# Altium footprint library SGK_DVR_01.PcbLib: 37 footprints (part 2 of 3)
Each footprint in its own frame and in the unit in brackets; x right, y up, seen from the top. Pads: shape width x height; smd on the part's side, far side on the other; paste and mask are expansions set on the pad; w line width, h text height; cw(c..) or ccw(c..) is an arc to the next point about the centre after c.
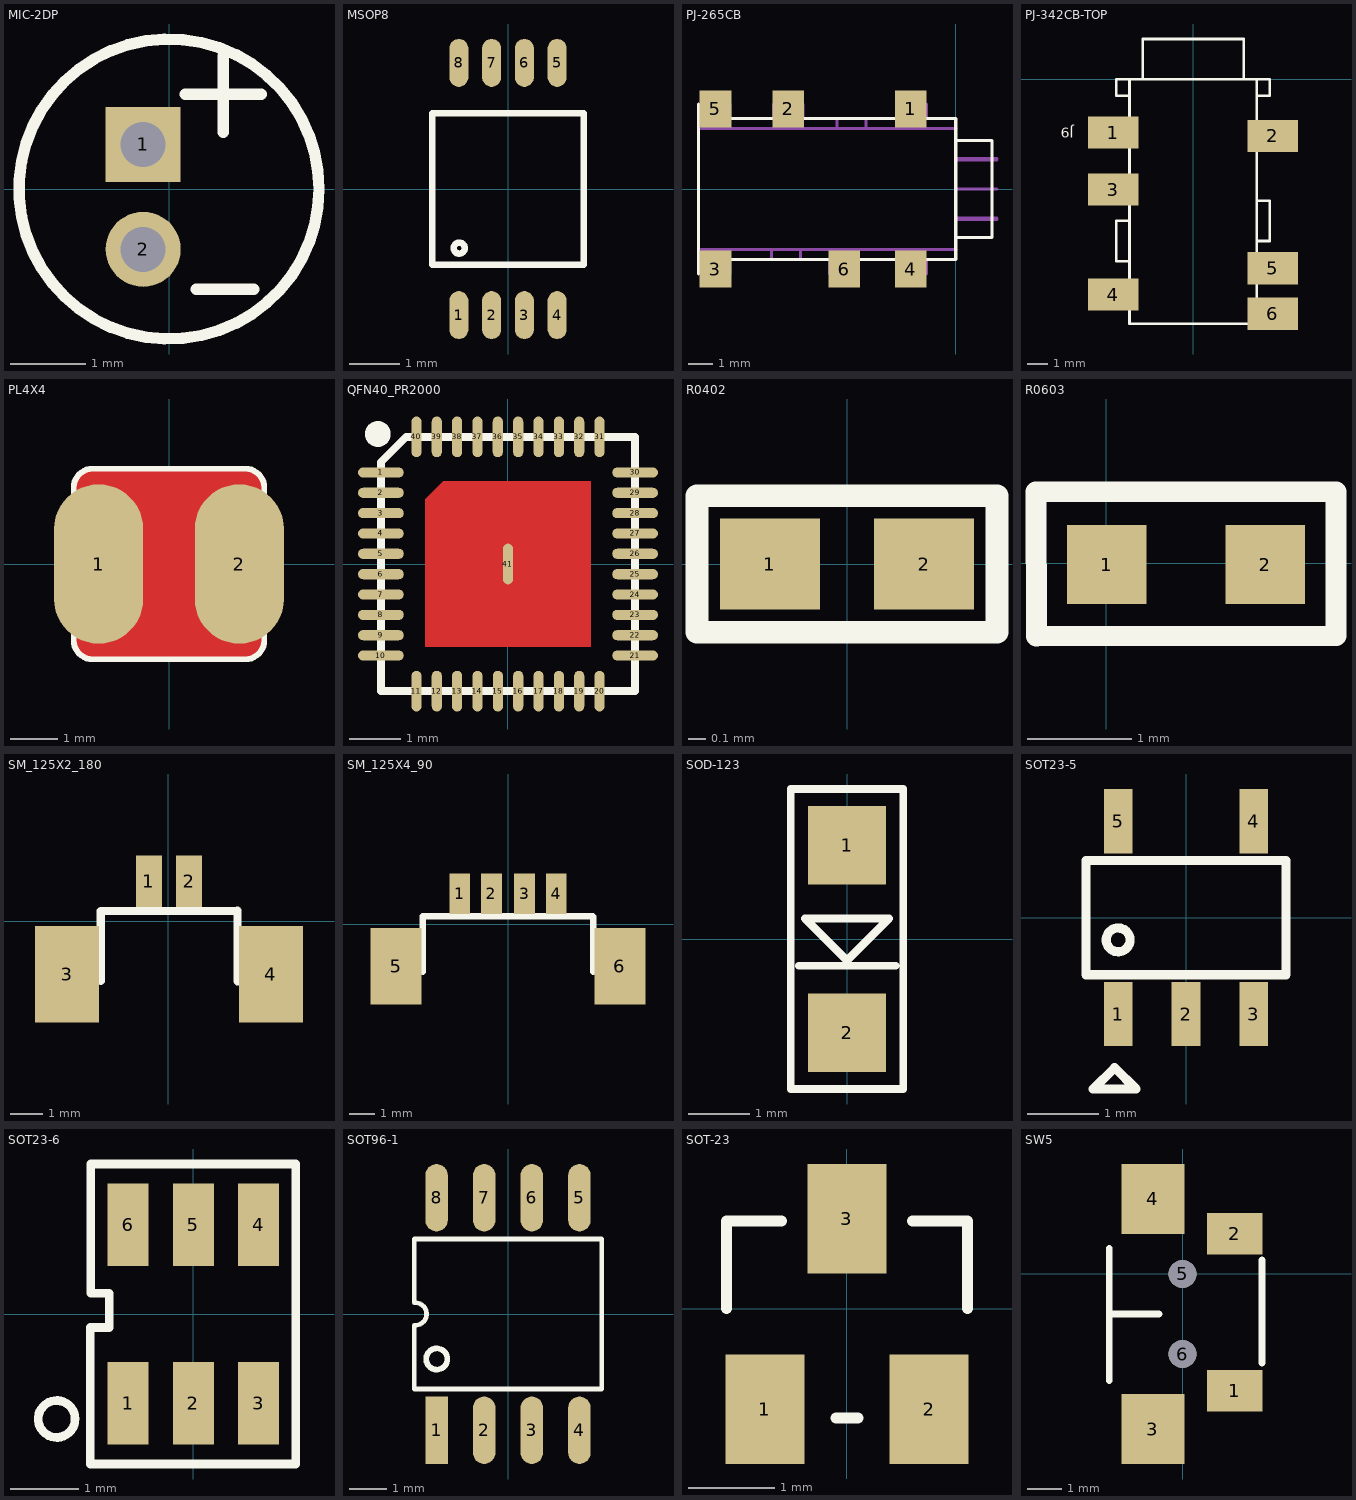
[diagram p1: the footprints below, top view; thin cyan lines are the x and y axes]

## MIC-2DP [mm]
pads (2):
  rect 1x1 / inner round 1 / far side rect 1x1 hole 0.6: 1(-0.345,0.596)
  round 1 hole 0.6: 2(-0.345,-0.804)
Top Overlay:
  circle w0.152: c0,0 r2
  lines w0.152: 0.215,1.265 1.231,1.265 ; 0.365,-1.339 1.127,-1.339 ; 0.723,0.757 0.723,1.773

## MSOP8 [mm]
pads (8):
  oval 0.38x0.95 smd: 1(-0.975,-2.5) 2(-0.325,-2.5) 3(0.325,-2.5) 4(0.975,-2.5) 5(0.975,2.5) 6(0.325,2.5) 7(-0.325,2.5) 8(-0.975,2.5)
Top Overlay:
  circle w0.127: c-0.967,-1.173 r0.11
  lines w0.127: -1.5,-1.5 1.5,-1.5 1.5,1.5 -1.5,1.5 -1.5,-1.5

## PJ-265CB [mm]
pads (6):
  rect 1.3x1.524 smd: 1(-1.85,3.3) 2(-6.9,3.3) 3(-9.9,-3.3) 4(-1.85,-3.3) 5(-9.9,3.3) 6(-4.6,-3.3)
Top Overlay:
  lines w0.127: -10.6,-3.5 -10.6,3.5 ; -10.5,-2.9 0,-2.9 0,2.9 -10.5,2.9 ; 0,-2 1.5,-2 1.5,2 0,2
Mechanical 1:
  lines w0.127: -10.5,-3.5 -9.3,-3.5 -9.3,-2.9 ; -10.5,-2.5 0,-2.5 ; -10.5,2.5 0,2.5 ; -10.5,3.5 -9.3,3.5 -9.3,2.9 ; -7.6,-2.9 -7.6,-2.5 -6.4,-2.5 -6.4,-2.9 ; -7.5,2.9 -7.5,3.5 -6.3,3.5 -6.3,2.9 ; -5.2,-2.9 -5.2,-3.5 -4,-3.5 -4,-2.9 ; -4.9,2.9 -4.9,2.5 -3.7,2.5 -3.7,2.9 ; -2.4,-2.9 -2.4,-3.5 -1.2,-3.5 -1.2,-2.9 ; -2.4,2.9 -2.4,3.5 -1.2,3.5 -1.2,2.9 ; 0,-1.25 1.7,-1.25 ; 0,-1.2 1.7,-1.2 ; 0,0 1.7,0 ; 0,1.2 1.7,1.2 ; 0,1.25 1.7,1.25

## PJ-342CB-TOP [mm]
pads (6):
  rect 2.5x1.6 smd: 1(-3.95,-2.63) 2(3.95,-2.8) 3(-3.95,-5.45) 4(-3.95,-10.65) 5(3.95,-9.35) 6(3.95,-11.6)
Top Overlay:
  lines w0.127: -2.5,0 -2.5,2 2.5,2 2.5,0 ; -3.15,0 -3.15,-12.1 3.15,-12.1 3.15,0 ; -3.15,0 3.15,0 ; -3.15,0 -3.8,0 -3.8,-0.8 -3.15,-0.8 -3.15,0 ; 3.15,0 3.8,0 3.8,-0.8 3.15,-0.8 3.15,0 ; -3.8,-9 -3.15,-9 -3.15,-7 -3.8,-7 -3.8,-9 ; 3.15,-8 3.8,-8 3.8,-6 3.15,-6 3.15,-8
  text "J9" at -5.906,-2.4 h0.51

## PL4X4 [mm]
pads (2):
  oval 1.9x3.4 smd: 1(-1.5,0) 2(1.5,0)
Top Layer:
  region: -0.383,1.221 -1.609,1.221 -1.609,-1.177 -0.383,-1.177
  region: 1.606,1.195 0.379,1.195 0.379,-1.203 1.606,-1.203
  region: -1.632,2.04 -1.788,2.009 -1.92,1.92 -2.009,1.788 -2.04,1.632 -2.032,1.632 -2.04,-1.632 -2.009,-1.788 -1.92,-1.92 -1.788,-2.009 -1.632,-2.04 -1.632,-2.032 1.632,-2.04 1.788,-2.009 1.92,-1.92 2.009,-1.788 2.04,-1.632 2.032,-1.632 2.04,1.632 2.009,1.788 1.92,1.92 1.788,2.009 1.632,2.04 1.632,2.032 -1.632,2.032
Top Overlay:
  lines w0.127: -2.032,-1.632 ccw(c-1.632,-1.632) -1.632,-2.032 1.632,-2.032 ccw(c1.632,-1.632) 2.032,-1.632 2.032,1.632 ccw(c1.632,1.632) 1.632,2.032 -1.632,2.032 ccw(c-1.632,1.632) -2.032,1.632 -2.032,-1.632

## QFN40_PR2000 [mm]
height 4.65
pads (41):
  oval 0.9x0.2 smd: 1(-2.5,1.8) 2(-2.5,1.4) 3(-2.5,1) 4(-2.5,0.6) 5(-2.5,0.2) 6(-2.5,-0.2) 7(-2.5,-0.6) 8(-2.5,-1) 9(-2.5,-1.4) 10(-2.5,-1.8) 21(2.5,-1.8) 22(2.5,-1.4) 23(2.5,-1) 24(2.5,-0.6) 25(2.5,-0.2) 26(2.5,0.2) 27(2.5,0.6) 28(2.5,1) 29(2.5,1.4) 30(2.5,1.8)
  oval 0.2x0.8 smd: 11(-1.8,-2.5) 12(-1.4,-2.5) 13(-1,-2.5) 14(-0.6,-2.5) 15(-0.2,-2.5) 16(0.2,-2.5) 17(0.6,-2.5) 18(1,-2.5) 19(1.4,-2.5) 20(1.8,-2.5) 31(1.8,2.5) 32(1.4,2.5) 33(1,2.5) 34(0.6,2.5) 35(0.2,2.5) 36(-0.2,2.5) 37(-0.6,2.5) 38(-1,2.5) 39(-1.4,2.5) 40(-1.8,2.5) 41(0,0)
Top Layer:
  region: -1.625,-1.625 1.625,-1.625 1.625,1.625 -1.275,1.625 -1.625,1.275
Top Overlay:
  circle w0.254: c-2.561,2.556 r0.127
  lines w0.152: -2.5,-2.5 2.5,-2.5 2.5,2.5 -2,2.5 -2.5,2 -2.5,-2.5

## R0402 [mil]
pads (2):
  rect 22x20 smd: 1(-17,0) 2(17,0)
Top Overlay:
  lines w5: -33.07,-15.04 33.07,-15.04 33.07,15.04 -33.07,15.04 -33.07,-15.04

## R0603 [mil]
pads (2):
  rect 30x30 smd: 1(0.27,-0.55) 2(60.27,-0.55)
Top Overlay:
  lines w7.87: -26.52,27.01 -26.32,-27.68 87.06,-27.48 87.06,27.01 -26.52,27.01

## SM_125X2_180 [mil]
height 183.07
pads (4):
  rect 32x63 smd: 1(-23.63,49.21) 2(25.58,49.21)
  rect 78.74x118 smd: 3(-124.02,-64.96) 4(125.98,-64.96)
Top Overlay:
  lines w10: -82.8,-73.1 -82.8,12.9 85,12.9 ; 84.9,-73.5 84.9,13.5

## SM_125X4_90 [mm]
height 4.65
pads (6):
  rect 0.813x1.6 smd: 1(-1.9,1.2) 2(-0.65,1.2) 3(0.65,1.2) 4(1.9,1.2)
  rect 2x2.997 smd: 5(-4.4,-1.65) 6(4.4,-1.65)
Top Overlay:
  lines w0.254: -3.353,-1.857 -3.353,0.328 3.34,0.328 ; 3.35,-1.867 3.35,0.3

## SOD-123 [mil]
pads (2):
  rect 50x50 smd: 1(0,60) 2(0,-60)
Top Overlay:
  lines w5: -26.84,13.12 26.87,13.12 ; -26.87,13.12 0,-13.75 ; -26.87,13.12 -20.22,13.12 -26.87,13.12 ; -26.84,13.12 26.87,13.12 ; -26.87,13.12 0,-13.75 ; 0,-13.75 26.87,13.12 ; 0,-13.75 26.87,13.12 ; -36,-96 36,-96 36,96 -36,96 -36,-96 ; -30.71,-17.07 31.08,-17.07 -30.71,-17.07

## SOT23-5 [mm]
pads (5):
  rect 0.4x0.9 smd: 1(-0.95,-1.35) 2(0,-1.35) 3(0.95,-1.35) 4(0.95,1.35) 5(-0.95,1.35)
Top Overlay:
  circle w0.127: c-0.95,-0.312 r0.167
  lines w0.127: -1.4,-0.8 1.4,-0.8 1.4,0.8 -1.4,0.8 -1.4,-0.8 ; -1.3,-2.4 -1,-2.1 -0.7,-2.4 -1.3,-2.4

## SOT23-6 [mm]
pads (6):
  rect 0.6x1.2 smd: 1(-0.95,-1.3) 2(0,-1.3) 3(0.95,-1.3) 4(0.95,1.3) 5(0,1.3) 6(-0.95,1.3)
Top Overlay:
  circle w0.127: c-1.991,-1.529 r0.269
  lines w0.127: -1.503,-2.184 -1.503,-0.197 -1.225,-0.197 -1.225,0.303 -1.495,0.303 -1.495,2.184 1.493,2.184 1.493,-2.184 -1.503,-2.184

## SOT96-1 [mm]
pads (8):
  rect 0.6x1.8 smd: 1(-1.905,-3.1)
  oval 0.6x1.8 smd: 2(-0.635,-3.1) 3(0.635,-3.1) 4(1.905,-3.1) 5(1.905,3.1) 6(0.635,3.1) 7(-0.635,3.1) 8(-1.905,3.1)
Top Overlay:
  circle w0.15: c-1.9,-1.2 r0.283
  lines w0.127: -2.5,-2 2.5,-2 2.5,2 -2.5,2 -2.5,0.3 -2.487,0.3 cw(c-2.47,0) -2.487,-0.3 -2.5,-0.3 -2.5,-2

## SOT-23 [mil]
pads (3):
  rect 36x50 smd: 1(-37.5,-46) 2(37.5,-46) 3(0,41)
Top Overlay:
  lines w5: -55,0 -55,40 -30,40 ; -5,-50 5,-50 ; 30,40 55,40 55,0

## SW5 [mm]
pads (6):
  rect 1.6x1.2 smd: 1(1.5,-3.35) 2(1.5,1.15)
  rect 1.8x2 smd: 3(-0.85,-4.45) 4(-0.85,2.15)
  round 0.8 on Top hole 0.8: 5(0,0) 6(0,-2.3)
Top Overlay:
  lines w0.2: -2.1,-3.05 -2.1,0.725 ; -2.1,-1.15 -0.675,-1.15 ; 2.275,-2.55 2.275,0.4